# Altium schematic symbol library AMS1117-ADJ.Schlib: 1 symbol
Pins are listed as number, name and electrical type; pins without a type are passive.

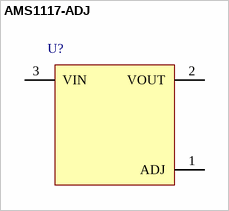
[diagram p0: symbol AMS1117-ADJ]

## AMS1117-ADJ
designator U?
pins: 1 ADJ (power), 2 VOUT (power), 3 VIN (power)